# EAGLE library part D09S13A4GX00LF (library Connector_D-Sub)
D-SUB, 9POS, RCPT, R/A SLDR Datasheet <https://cdn.amphenol-icc.com/media/wysiwyg/files/documentation/datasheet/inputoutput/io_dsub_d8656.pdf> Drawing <https://cdn.amphenol-icc.com/media/wysiwyg/files/drawing/c01-8646-0294.pdf>
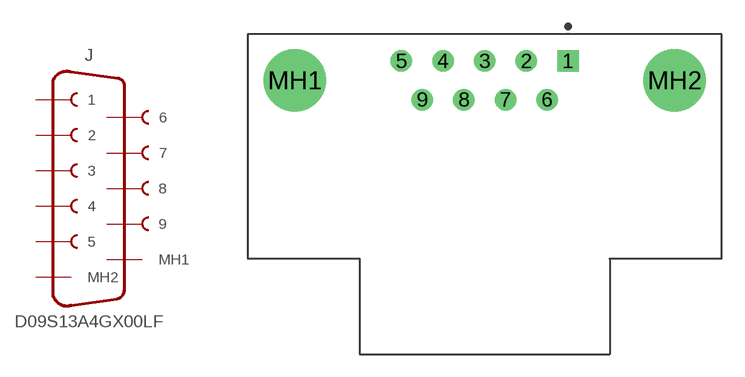
[diagram p0: symbol with the pads of D09S13A4GX00LF; footprint D09S13A4GX00LF]

Designator prefix J

## D09S13A4GX00LF (CATEGORY: Connector; DESCRIPTION: CONN D-SUB RCPT 9POS R/A SLDR; GENDER: Female; MANUFACTURER: Amphenol ICC (FCI); MPN: D09S13A4GX00LF; OPERATING_TEMP: -55°C to +125°C; PART_STATUS: Active; ROHS_COMPLIANT: RoHS Compliant; SERIES: Delta D; SUB-CATEGORY: D-SUB; TYPE: R/A; VALUE: D-SUB-RCPT-9P)  [D09S13A4GX00LF]
1  1  pas
2  2  pas
3  3  pas
4  4  pas
5  5  pas
6  6  pas
7  7  pas
8  8  pas
9  9  pas
MH1  MH2  sup
MH2  MH1  sup

## Footprint D09S13A4GX00LF (pad centres in mm)
drill 0.9 square: 1 0,0
drill 0.9: 2 -2.74,0; 3 -5.48,0; 4 -8.22,0; 5 -10.96,0; 6 -1.37,-2.54; 7 -4.11,-2.54; 8 -6.85,-2.54; 9 -9.59,-2.54
drill 3.1: MH1 -17.975,-1.27; MH2 7.015,-1.27